# Altium footprint library RPSLib_Resistors.PcbLib: 22 footprints (part 2 of 2)
Each footprint in its own frame and in the unit in brackets; x right, y up, seen from the top. Pads: shape width x height; smd on the part's side, far side on the other; paste and mask are expansions set on the pad; w line width, h text height; cw(c..) or ccw(c..) is an arc to the next point about the centre after c.
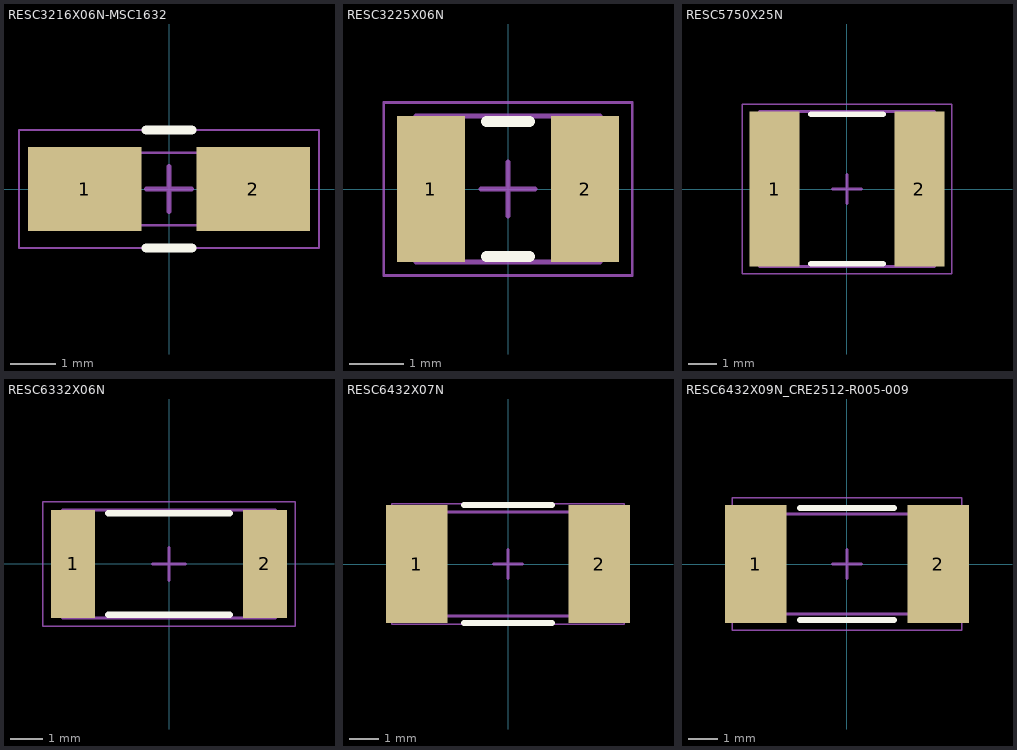
[diagram p1: the footprints below, top view; thin cyan lines are the x and y axes]

## RESC3216X06N-MSC1632 [mm] "Chip Resistor, 2-Leads, Body 3.20x1.60mm, IPC Medium Density"
height 0.6
pads (2):
  rect 2.5x1.84 smd paste-0.05 mask+0.03: 1(-1.85,0) 2(1.85,0)
Top Overlay:
  lines w0.2: -0.5,-1.3 0.5,-1.3 ; -0.5,1.3 0.5,1.3
Mechanical 13:
  lines w0.05: -1.6,-0.8 -1.6,0.8 1.6,0.8 1.6,-0.8 -1.6,-0.8
Mechanical 15:
  lines w0.05: -3.3,-1.3 3.3,-1.3 3.3,1.3 -3.3,1.3 -3.3,-1.3
  lines w0.1: -0.5,0 0.5,0 ; 0,-0.5 0,0.5
3D body "Resistor MCS.stp": height 0.6, standoff 0, extent -1.6,-0.8 1.6,0.8

## RESC3225X06N [mm] "Chip Resistor, 2-Leads, Body 3.20x2.50mm, IPC Medium Density"
height 0.6
pads (2):
  rect 1.25x2.7 smd: 1(-1.425,0) 2(1.425,0)
Top Overlay:
  lines w0.2: -0.4,-1.25 0.4,-1.25 ; -0.4,1.25 0.4,1.25
Mechanical 13:
  lines w0.1: -1.7,-1.35 -1.7,1.35 1.7,1.35 1.7,-1.35 -1.7,-1.35
Mechanical 15:
  lines w0.05: -2.3,-1.6 -2.3,1.6 2.3,1.6 2.3,-1.6 -2.3,-1.6
  lines w0.1: -0.5,0 0.5,0 ; 0,-0.5 0,0.5
3D body "RESC3225X06N.step": height 0.6, standoff 0, extent -1.7,-1.35 1.7,1.35

## RESC5750X25N [mm] "Chip Resistor, 2-Leads, Body 5.70x5.00mm, IPC Medium Density"
height 2.5
pads (2):
  rect 1.75x5.4 smd paste-0.07 mask+0.07: 1(-2.525,0) 2(2.525,0)
Top Overlay:
  lines w0.2: -1.25,-2.6 1.25,-2.6 ; -1.25,2.6 1.25,2.6
Mechanical 13:
  lines w0.1: -3.05,-2.7 -3.05,2.7 3.05,2.7 3.05,-2.7 -3.05,-2.7
Mechanical 15:
  lines w0.05: -3.65,-2.95 -3.65,2.95 3.65,2.95 3.65,-2.95 -3.65,-2.95
  lines w0.1: -0.5,0 0.5,0 ; 0,-0.5 0,0.5
3D body "RESC5750X25N.step": height 2.5, standoff 0, extent -3.05,-2.7 3.05,2.7

## RESC6332X06N [mm] "Chip Resistor, 2-Leads, Body 6.30x3.20mm, IPC Medium Density"
height 0.6
pads (2):
  rect 1.35x3.3 smd: 1(-2.925,0) 2(2.925,0)
Top Overlay:
  lines w0.2: -1.85,-1.55 1.85,-1.55 ; -1.85,1.55 1.85,1.55
Mechanical 13:
  lines w0.1: -3.25,-1.65 -3.25,1.65 3.25,1.65 3.25,-1.65 -3.25,-1.65
Mechanical 15:
  lines w0.05: -3.85,-1.9 -3.85,1.9 3.85,1.9 3.85,-1.9 -3.85,-1.9
  lines w0.1: -0.5,0 0.5,0 ; 0,-0.5 0,0.5
3D body "RESC6332X06N.step": height 0.6, standoff 0, extent -3.25,-1.65 3.25,1.65

## RESC6432X07N [mm] "Chip Resistor, 2-Leads, Body 6.4x3.2mm, IPC Medium Density"
height 0.7
pads (2):
  rect 2.1x4 smd: 1(-3.1,0) 2(3.1,0)
Top Overlay:
  lines w0.2: -1.5,-2 1.5,-2 ; -1.5,2 1.5,2
Mechanical 13:
  lines w0.1: -3.325,-1.775 3.325,-1.775 3.325,1.775 -3.325,1.775 -3.325,-1.775
Mechanical 15:
  lines w0.05: -3.95,-2.05 3.95,-2.05 3.95,2.05 -3.95,2.05 -3.95,-2.05
  lines w0.1: -0.5,0 0.5,0 ; 0,-0.5 0,0.5
3D body "RESC6533X07N.step": height 0.7, standoff 0, extent -3.325,-1.775 3.325,1.775

## RESC6432X09N_CRE2512-R005-009 [mm] "Chip Resistor, 2-Leads, Body 6,40x3,20mm, IPC Medium Density"
height 0.9
pads (2):
  rect 2.1x4 smd: 1(-3.1,0) 2(3.1,0)
Top Overlay:
  lines w0.2: -1.6,-1.9 1.6,-1.9 ; -1.6,1.9 1.6,1.9
Mechanical 13:
  lines w0.1: -3.3,-1.7 3.3,-1.7 3.3,1.7 -3.3,1.7 -3.3,-1.7
Mechanical 15:
  lines w0.05: -3.9,-2.25 3.9,-2.25 3.9,2.25 -3.9,2.25 -3.9,-2.25
  lines w0.1: -0.5,0 0.5,0 ; 0,-0.5 0,0.5
3D body "RESC6432X09N.step": height 0.9, standoff 0, extent -3.3,-1.7 3.3,1.7